# EAGLE library part AR0144CSSC20SUKA0 (library AR0144CSSC20SUKA0)
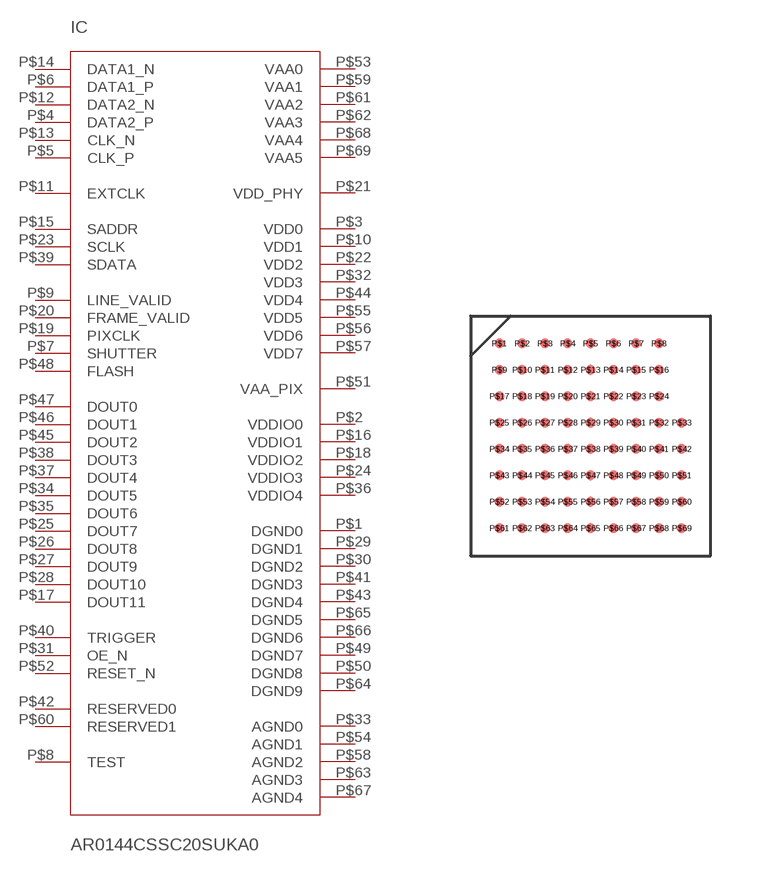
[diagram p0: symbol with the pads of AR0144CSSC20SUKA0; footprint AR0144CSSC20SUKA0]

Designator prefix IC

## AR0144CSSC20SUKA0  [AR0144CSSC20SUKA0]
P$1  DGND0  sup
P$2  VDDIO0  sup
P$3  VDD0  sup
P$4  DATA2_P  out
P$5  CLK_P  out
P$6  DATA1_P  out
P$7  SHUTTER  out
P$8  TEST  in
P$9  LINE_VALID  out
P$10  VDD1  sup
P$11  EXTCLK  in
P$12  DATA2_N  out
P$13  CLK_N  out
P$14  DATA1_N  out
P$15  SADDR  in
P$16  VDDIO1  sup
P$17  DOUT11  out
P$18  VDDIO2  sup
P$19  PIXCLK  out
P$20  FRAME_VALID  out
P$21  VDD_PHY  sup
P$22  VDD2  sup
P$23  SCLK  in
P$24  VDDIO3  sup
P$25  DOUT7  out
P$26  DOUT8  out
P$27  DOUT9  out
P$28  DOUT10  out
P$29  DGND1  sup
P$30  DGND2  sup
P$31  OE_N  in
P$32  VDD3  sup
P$33  AGND0  sup
P$34  DOUT5  out
P$35  DOUT6  out
P$36  VDDIO4  sup
P$37  DOUT4  out
P$38  DOUT3  out
P$39  SDATA
P$40  TRIGGER  in
P$41  DGND3  sup
P$42  RESERVED0  in
P$43  DGND4  sup
P$44  VDD4  sup
P$45  DOUT2  out
P$46  DOUT1  out
P$47  DOUT0  out
P$48  FLASH  out
P$49  DGND7  sup
P$50  DGND8  sup
P$51  VAA_PIX  sup
P$52  RESET_N  in
P$53  VAA0  sup
P$54  AGND1  sup
P$55  VDD5  sup
P$56  VDD6  sup
P$57  VDD7  sup
P$58  AGND2  sup
P$59  VAA1  sup
P$60  RESERVED1  in
P$61  VAA2  sup
P$62  VAA3  sup
P$63  AGND3  sup
P$64  DGND9  sup
P$65  DGND5  sup
P$66  DGND6  sup
P$67  AGND4  sup
P$68  VAA4  sup
P$69  VAA5  sup

## Footprint AR0144CSSC20SUKA0 (pad centres in mm)
smd 0.25 x 0.25: P$1 -2.28,2.31; P$2 -1.71,2.31; P$3 -1.14,2.31; P$4 -0.57,2.31; P$5 0,2.31; P$6 0.57,2.31; P$7 1.14,2.31; P$8 1.71,2.31; P$9 -2.28,1.65; P$10 -1.71,1.65; P$11 -1.14,1.65; P$12 -0.57,1.65; P$13 0,1.65; P$14 0.57,1.65; P$15 1.14,1.65; P$16 1.71,1.65; P$17 -2.28,0.99; P$18 -1.71,0.99; P$19 -1.14,0.99; P$20 -0.57,0.99; P$21 0,0.99; P$22 0.57,0.99; P$23 1.14,0.99; P$24 1.71,0.99; P$25 -2.28,0.33; P$26 -1.71,0.33; P$27 -1.14,0.33; P$28 -0.57,0.33; P$29 0,0.33; P$30 0.57,0.33; P$31 1.14,0.33; P$32 1.71,0.33; P$33 2.28,0.33; P$34 -2.28,-0.33; P$35 -1.71,-0.33; P$36 -1.14,-0.33; P$37 -0.57,-0.33; P$38 0,-0.33; P$39 0.57,-0.33; P$40 1.14,-0.33; P$41 1.71,-0.33; P$42 2.28,-0.33; P$43 -2.28,-0.99; P$44 -1.71,-0.99; P$45 -1.14,-0.99; P$46 -0.57,-0.99; P$47 0,-0.99; P$48 0.57,-0.99; P$49 1.14,-0.99; P$50 1.71,-0.99; P$51 2.28,-0.99; P$52 -2.28,-1.65; P$53 -1.71,-1.65; P$54 -1.14,-1.65; P$55 -0.57,-1.65; P$56 0,-1.65; P$57 0.57,-1.65; P$58 1.14,-1.65; P$59 1.71,-1.65; P$60 2.28,-1.65; P$61 -2.28,-2.31; P$62 -1.71,-2.31; P$63 -1.14,-2.31; P$64 -0.57,-2.31; P$65 0,-2.31; P$66 0.57,-2.31; P$67 1.14,-2.31; P$68 1.71,-2.31; P$69 2.28,-2.31